# Altium footprint library ThermosCupLib.PcbLib: 3 footprints
Each footprint in its own frame and in the unit in brackets; x right, y up, seen from the top. Pads: shape width x height; smd on the part's side, far side on the other; paste and mask are expansions set on the pad; w line width, h text height; cw(c..) or ccw(c..) is an arc to the next point about the centre after c.
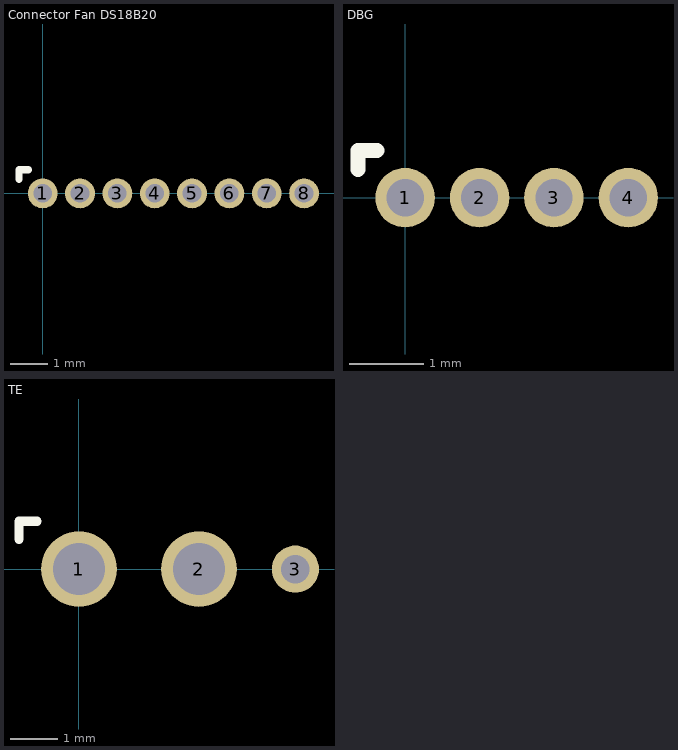
[diagram p0: the footprints below, top view; thin cyan lines are the x and y axes]

## Connector Fan DS18B20 [mm]
pads (8):
  round 0.8 hole 0.5: 1(0,0) 2(1,0) 3(2,0) 4(3,0) 5(4,0) 6(5,0) 7(6,0) 8(7,0)
Top Overlay:
  lines w0.2: -0.635,0.381 -0.635,0.635 -0.381,0.635

## DBG [mm]
pads (4):
  round 0.8 hole 0.5: 1(0,0) 2(1,0) 3(2,0) 4(3,0)
Top Overlay:
  lines w0.2: -0.635,0.381 -0.635,0.635 -0.381,0.635

## TE [mm]
pads (3):
  round 1.6 hole 1.1: 1(0,0) 2(2.54,0)
  round 1 hole 0.6: 3(4.58,0)
Top Overlay:
  lines w0.2: -1.27,0.635 -1.27,1.016 -0.889,1.016